# EAGLE library part SQ4917CEY-T1_GE3 (library SQ4917CEY-T1_GE3)
MOSFET Automotive Dual P-Channel 60V 175CmOSFET 48mO 10V, 61.2mO 4.5V Source: Datasheet <https://www.vishay.com/docs/62019/sq4917cey.pdf>
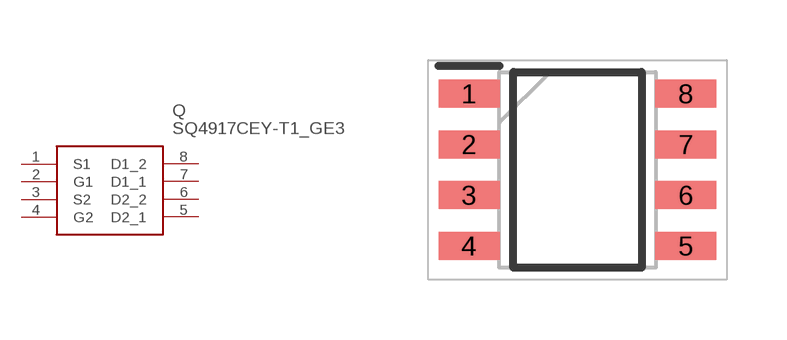
[diagram p0: symbol with the pads of SOIC127P600X175-8N; footprint SOIC127P600X175-8N]

Designator prefix Q

## SQ4917CEY-T1_GE3 (Description: MOSFET Automotive Dual P-Channel 60V 175CmOSFET 48mO 10V, 61.2mO 4.5V; Height: 1.75mm; Manufacturer_Name: Vishay; Manufacturer_Part_Number: SQ4917CEY-T1_GE3; Mouser_Part_Number: 78-SQ4917CEY-T1_GE3; Mouser_Price-Stock: https://www.mouser.co.uk/ProductDetail/Vishay-Semiconductors/SQ4917CEY-T1_GE3?qs=Y0Uzf4wQF3m%252Bt%252BVrseINGQ%3D%3D)  [SOIC127P600X175-8N]
1  S1
2  G1
3  S2
4  G2
5  D2_1
6  D2_2
7  D1_1
8  D1_2

## Footprint SOIC127P600X175-8N (pad centres in mm)
SO-8
smd 1.525 x 0.7: 1 -2.712,1.905; 2 -2.712,0.635; 3 -2.712,-0.635; 4 -2.712,-1.905; 5 2.712,-1.905; 6 2.712,-0.635; 7 2.712,0.635; 8 2.712,1.905